# EAGLE library part LPC3240 (library kwoo)
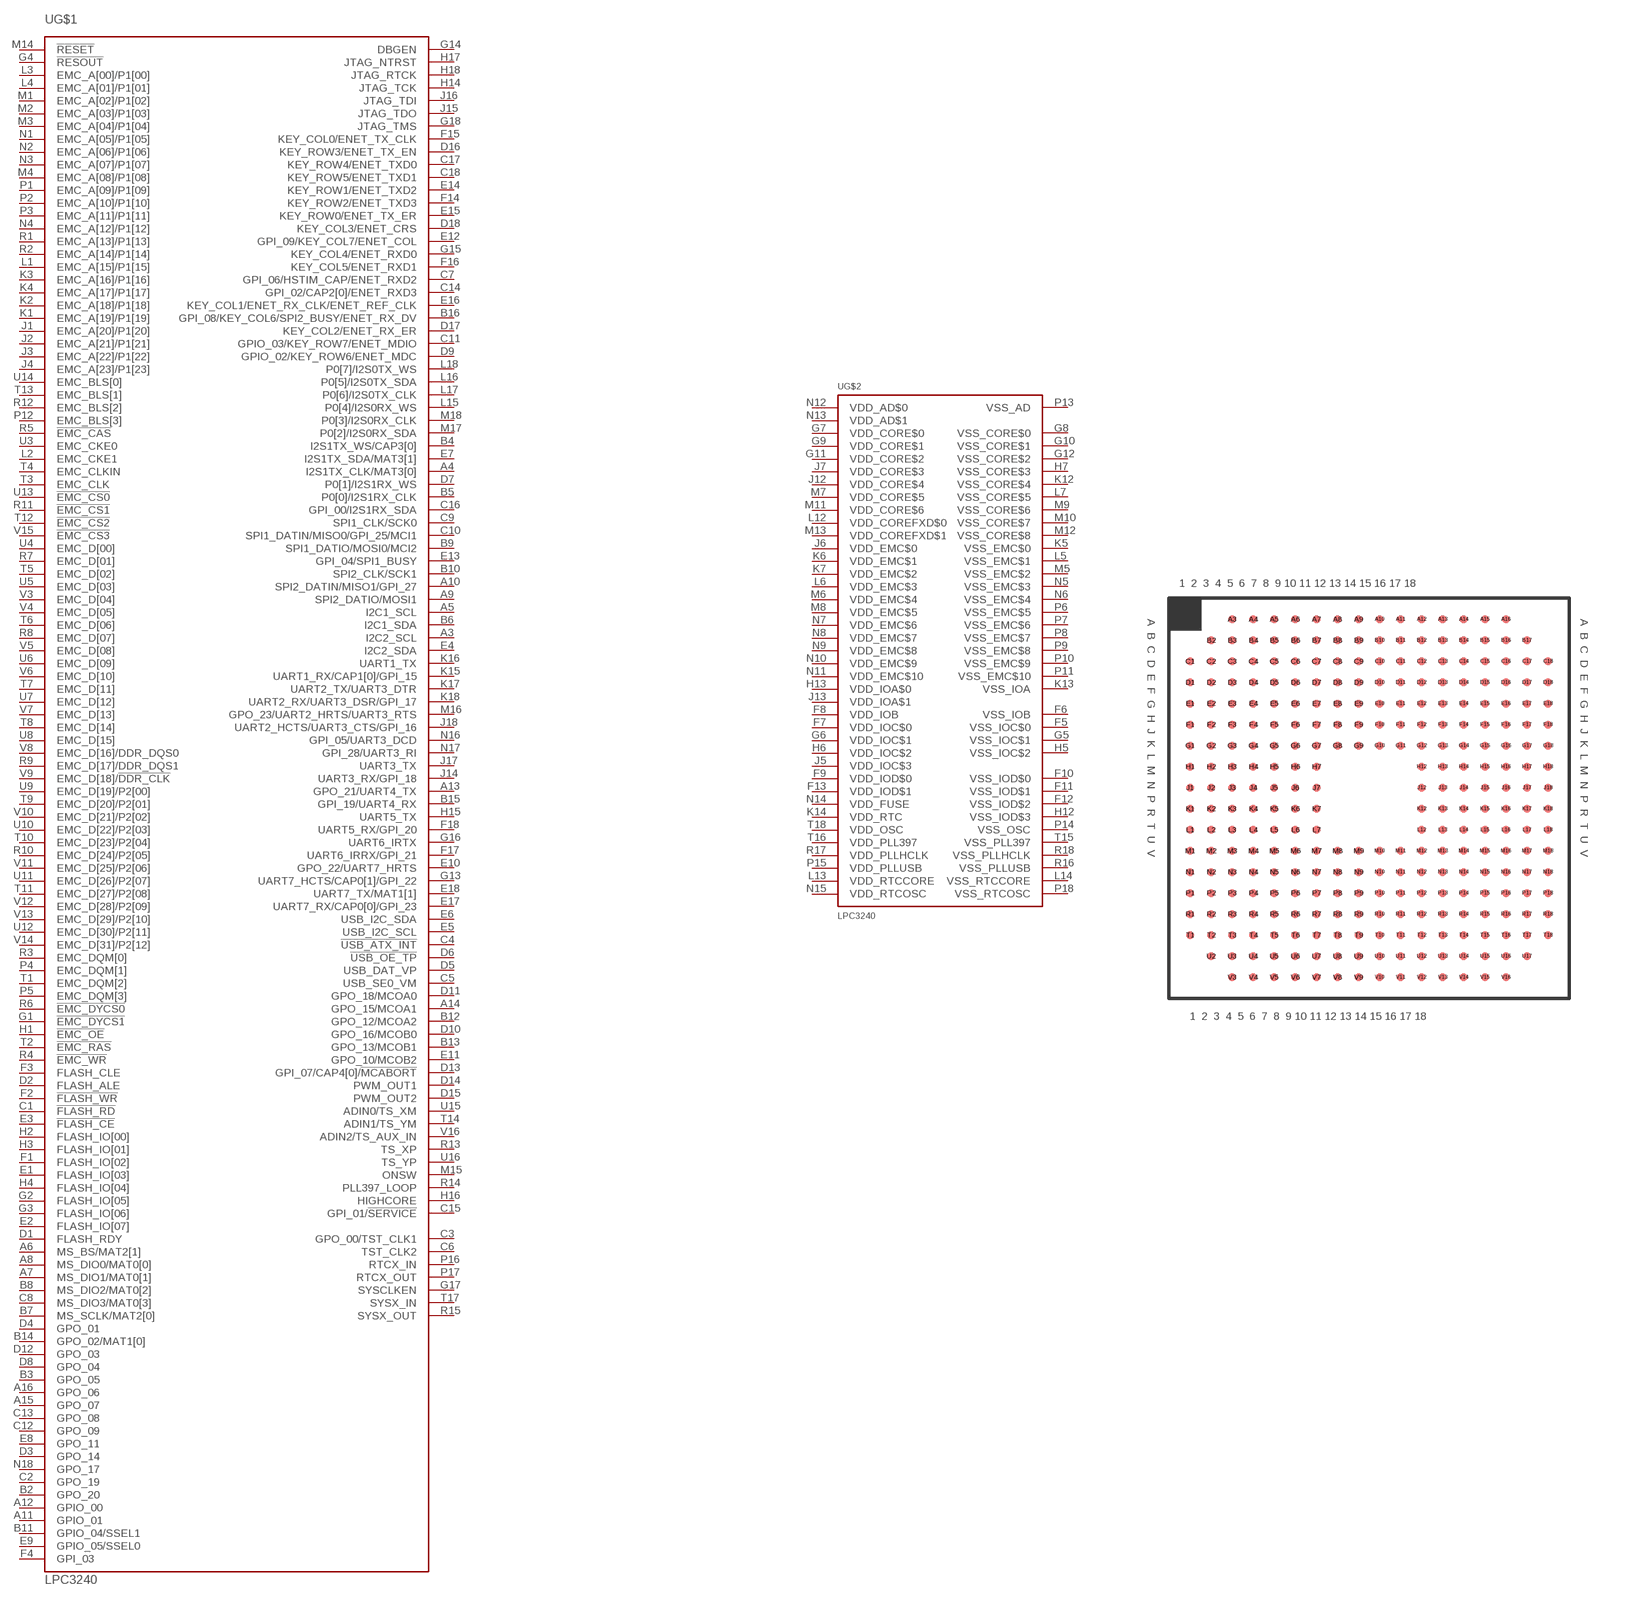
[diagram p11: symbol with the pads of SOT1048-1; footprint SOT1048-1]

Designator prefix -; gates G$1=LPC3240 G$2=LPC32X0_PWR

## LPC3240  [SOT1048-1]
A3  G$1:I2C2_SCL  nc
A4  G$1:I2S1TX_CLK/MAT3[0]  nc
A5  G$1:I2C1_SCL  nc
A6  G$1:MS_BS/MAT2[1]  nc
A7  G$1:MS_DIO1/MAT0[1]  nc
A8  G$1:MS_DIO0/MAT0[0]  nc
A9  G$1:SPI2_DATIO/MOSI1  nc
A10  G$1:SPI2_DATIN/MISO1/GPI_27  nc
A11  G$1:GPIO_01  nc
A12  G$1:GPIO_00  nc
A13  G$1:GPO_21/UART4_TX  nc
A14  G$1:GPO_15/MCOA1  nc
A15  G$1:GPO_07  nc
A16  G$1:GPO_06  nc
B2  G$1:GPO_20  nc
B3  G$1:GPO_05  nc
B4  G$1:I2S1TX_WS/CAP3[0]  nc
B5  G$1:P0[0]/I2S1RX_CLK  nc
B6  G$1:I2C1_SDA  nc
B7  G$1:MS_SCLK/MAT2[0]  nc
B8  G$1:MS_DIO2/MAT0[2]  nc
B9  G$1:SPI1_DATIO/MOSI0/MCI2  nc
B10  G$1:SPI2_CLK/SCK1  nc
B11  G$1:GPIO_04/SSEL1  nc
B12  G$1:GPO_12/MCOA2  nc
B13  G$1:GPO_13/MCOB1  nc
B14  G$1:GPO_02/MAT1[0]  nc
B15  G$1:GPI_19/UART4_RX  nc
B16  G$1:GPI_08/KEY_COL6/SPI2_BUSY/ENET_RX_DV  nc
C1  G$1:!FLASH_RD  nc
C2  G$1:GPO_19  nc
C3  G$1:GPO_00/TST_CLK1  nc
C4  G$1:!USB_ATX_INT  nc
C5  G$1:USB_SE0_VM  nc
C6  G$1:TST_CLK2  nc
C7  G$1:GPI_06/HSTIM_CAP/ENET_RXD2  nc
C8  G$1:MS_DIO3/MAT0[3]  nc
C9  G$1:SPI1_CLK/SCK0  nc
C10  G$1:SPI1_DATIN/MISO0/GPI_25/MCI1  nc
C11  G$1:GPIO_03/KEY_ROW7/ENET_MDIO  nc
C12  G$1:GPO_09  nc
C13  G$1:GPO_08  nc
C14  G$1:GPI_02/CAP2[0]/ENET_RXD3  nc
C15  G$1:GPI_01/!SERVICE  nc
C16  G$1:GPI_00/I2S1RX_SDA  nc
C17  G$1:KEY_ROW4/ENET_TXD0  nc
C18  G$1:KEY_ROW5/ENET_TXD1  nc
D1  G$1:FLASH_RDY  nc
D2  G$1:FLASH_ALE  nc
D3  G$1:GPO_14  nc
D4  G$1:GPO_01  nc
D5  G$1:USB_DAT_VP  nc
D6  G$1:!USB_OE_TP  nc
D7  G$1:P0[1]/I2S1RX_WS  nc
D8  G$1:GPO_04  nc
D9  G$1:GPIO_02/KEY_ROW6/ENET_MDC  nc
D10  G$1:GPO_16/MCOB0  nc
D11  G$1:GPO_18/MCOA0  nc
D12  G$1:GPO_03  nc
D13  G$1:GPI_07/CAP4[0]/!MCABORT  nc
D14  G$1:PWM_OUT1  nc
D15  G$1:PWM_OUT2  nc
D16  G$1:KEY_ROW3/ENET_TX_EN  nc
D17  G$1:KEY_COL2/ENET_RX_ER  nc
D18  G$1:KEY_COL3/ENET_CRS  nc
E1  G$1:FLASH_IO[03]  nc
E2  G$1:FLASH_IO[07]  nc
E3  G$1:!FLASH_CE  nc
E4  G$1:I2C2_SDA  nc
E5  G$1:USB_I2C_SCL  nc
E6  G$1:USB_I2C_SDA  nc
E7  G$1:I2S1TX_SDA/MAT3[1]  nc
E8  G$1:GPO_11  nc
E9  G$1:GPIO_05/SSEL0  nc
E10  G$1:GPO_22/UART7_HRTS  nc
E11  G$1:GPO_10/MCOB2  nc
E12  G$1:GPI_09/KEY_COL7/ENET_COL  nc
E13  G$1:GPI_04/SPI1_BUSY  nc
E14  G$1:KEY_ROW1/ENET_TXD2  nc
E15  G$1:KEY_ROW0/ENET_TX_ER  nc
E16  G$1:KEY_COL1/ENET_RX_CLK/ENET_REF_CLK  nc
E17  G$1:UART7_RX/CAP0[0]/GPI_23  nc
E18  G$1:UART7_TX/MAT1[1]  nc
F1  G$1:FLASH_IO[02]  nc
F2  G$1:!FLASH_WR  nc
F3  G$1:FLASH_CLE  nc
F4  G$1:GPI_03  nc
F5  G$2:VSS_IOC$0  pwr
F6  G$2:VSS_IOB  pwr
F7  G$2:VDD_IOC$0  pwr
F8  G$2:VDD_IOB  pwr
F9  G$2:VDD_IOD$0  pwr
F10  G$2:VSS_IOD$0  pwr
F11  G$2:VSS_IOD$1  pwr
F12  G$2:VSS_IOD$2  pwr
F13  G$2:VDD_IOD$1  pwr
F14  G$1:KEY_ROW2/ENET_TXD3  nc
F15  G$1:KEY_COL0/ENET_TX_CLK  nc
F16  G$1:KEY_COL5/ENET_RXD1  nc
F17  G$1:UART6_IRRX/GPI_21  nc
F18  G$1:UART5_RX/GPI_20  nc
G1  G$1:!EMC_DYCS1  nc
G2  G$1:FLASH_IO[05]  nc
G3  G$1:FLASH_IO[06]  nc
G4  G$1:!RESOUT  nc
G5  G$2:VSS_IOC$1  pwr
G6  G$2:VDD_IOC$1  pwr
G7  G$2:VDD_CORE$0  pwr
G8  G$2:VSS_CORE$0  pwr
G9  G$2:VDD_CORE$1  pwr
G10  G$2:VSS_CORE$1  pwr
G11  G$2:VDD_CORE$2  pwr
G12  G$2:VSS_CORE$2  pwr
G13  G$1:UART7_HCTS/CAP0[1]/GPI_22  nc
G14  G$1:DBGEN  nc
G15  G$1:KEY_COL4/ENET_RXD0  nc
G16  G$1:UART6_IRTX  nc
G17  G$1:SYSCLKEN  nc
G18  G$1:JTAG_TMS  nc
H1  G$1:!EMC_OE  nc
H2  G$1:FLASH_IO[00]  nc
H3  G$1:FLASH_IO[01]  nc
H4  G$1:FLASH_IO[04]  nc
H5  G$2:VSS_IOC$2  pwr
H6  G$2:VDD_IOC$2  pwr
H7  G$2:VSS_CORE$3  pwr
H12  G$2:VSS_IOD$3  pwr
H13  G$2:VDD_IOA$0  pwr
H14  G$1:JTAG_TCK  nc
H15  G$1:UART5_TX  nc
H16  G$1:HIGHCORE  nc
H17  G$1:JTAG_NTRST  nc
H18  G$1:JTAG_RTCK  nc
J1  G$1:EMC_A[20]/P1[20]  nc
J2  G$1:EMC_A[21]/P1[21]  nc
J3  G$1:EMC_A[22]/P1[22]  nc
J4  G$1:EMC_A[23]/P1[23]  nc
J5  G$2:VDD_IOC$3  pwr
J6  G$2:VDD_EMC$0  pwr
J7  G$2:VDD_CORE$3  pwr
J12  G$2:VDD_CORE$4  pwr
J13  G$2:VDD_IOA$1  pwr
J14  G$1:UART3_RX/GPI_18  nc
J15  G$1:JTAG_TDO  nc
J16  G$1:JTAG_TDI  nc
J17  G$1:UART3_TX  nc
J18  G$1:UART2_HCTS/UART3_CTS/GPI_16  nc
K1  G$1:EMC_A[19]/P1[19]  nc
K2  G$1:EMC_A[18]/P1[18]  nc
K3  G$1:EMC_A[16]/P1[16]  nc
K4  G$1:EMC_A[17]/P1[17]  nc
K5  G$2:VSS_EMC$0  pwr
K6  G$2:VDD_EMC$1  pwr
K7  G$2:VDD_EMC$2  pwr
K12  G$2:VSS_CORE$4  pwr
K13  G$2:VSS_IOA  pwr
K14  G$2:VDD_RTC  pwr
K15  G$1:UART1_RX/CAP1[0]/GPI_15  nc
K16  G$1:UART1_TX  nc
K17  G$1:UART2_TX/UART3_DTR  nc
K18  G$1:UART2_RX/UART3_DSR/GPI_17  nc
L1  G$1:EMC_A[15]/P1[15]  nc
L2  G$1:EMC_CKE1  nc
L3  G$1:EMC_A[00]/P1[00]  nc
L4  G$1:EMC_A[01]/P1[01]  nc
L5  G$2:VSS_EMC$1  pwr
L6  G$2:VDD_EMC$3  pwr
L7  G$2:VSS_CORE$5  pwr
L12  G$2:VDD_COREFXD$0  pwr
L13  G$2:VDD_RTCCORE  pwr
L14  G$2:VSS_RTCCORE  pwr
L15  G$1:P0[4]/I2S0RX_WS  nc
L16  G$1:P0[5]/I2S0TX_SDA  nc
L17  G$1:P0[6]/I2S0TX_CLK  nc
L18  G$1:P0[7]/I2S0TX_WS  nc
M1  G$1:EMC_A[02]/P1[02]  nc
M2  G$1:EMC_A[03]/P1[03]  nc
M3  G$1:EMC_A[04]/P1[04]  nc
M4  G$1:EMC_A[08]/P1[08]  nc
M5  G$2:VSS_EMC$2  pwr
M6  G$2:VDD_EMC$4  pwr
M7  G$2:VDD_CORE$5  pwr
M8  G$2:VDD_EMC$5  pwr
M9  G$2:VSS_CORE$6  pwr
M10  G$2:VSS_CORE$7  pwr
M11  G$2:VDD_CORE$6  pwr
M12  G$2:VSS_CORE$8  pwr
M13  G$2:VDD_COREFXD$1  pwr
M14  G$1:!RESET  nc
M15  G$1:ONSW  nc
M16  G$1:GPO_23/UART2_HRTS/UART3_RTS  nc
M17  G$1:P0[2]/I2S0RX_SDA  nc
M18  G$1:P0[3]/I2S0RX_CLK  nc
N1  G$1:EMC_A[05]/P1[05]  nc
N2  G$1:EMC_A[06]/P1[06]  nc
N3  G$1:EMC_A[07]/P1[07]  nc
N4  G$1:EMC_A[12]/P1[12]  nc
N5  G$2:VSS_EMC$3  pwr
N6  G$2:VSS_EMC$4  pwr
N7  G$2:VDD_EMC$6  pwr
N8  G$2:VDD_EMC$7  pwr
N9  G$2:VDD_EMC$8  pwr
N10  G$2:VDD_EMC$9  pwr
N11  G$2:VDD_EMC$10  pwr
N12  G$2:VDD_AD$0  pwr
N13  G$2:VDD_AD$1  pwr
N14  G$2:VDD_FUSE  pwr
N15  G$2:VDD_RTCOSC  pwr
N16  G$1:GPI_05/UART3_DCD  nc
N17  G$1:GPI_28/UART3_RI  nc
N18  G$1:GPO_17  nc
P1  G$1:EMC_A[09]/P1[09]  nc
P2  G$1:EMC_A[10]/P1[10]  nc
P3  G$1:EMC_A[11]/P1[11]  nc
P4  G$1:EMC_DQM[1]  nc
P5  G$1:EMC_DQM[3]  nc
P6  G$2:VSS_EMC$5  pwr
P7  G$2:VSS_EMC$6  pwr
P8  G$2:VSS_EMC$7  pwr
P9  G$2:VSS_EMC$8  pwr
P10  G$2:VSS_EMC$9  pwr
P11  G$2:VSS_EMC$10  pwr
P12  G$1:EMC_BLS[3]  nc
P13  G$2:VSS_AD  pwr
P14  G$2:VSS_OSC  pwr
P15  G$2:VDD_PLLUSB  pwr
P16  G$1:RTCX_IN  nc
P17  G$1:RTCX_OUT  nc
P18  G$2:VSS_RTCOSC  pwr
R1  G$1:EMC_A[13]/P1[13]  nc
R2  G$1:EMC_A[14]/P1[14]  nc
R3  G$1:EMC_DQM[0]  nc
R4  G$1:!EMC_WR  nc
R5  G$1:!EMC_CAS  nc
R6  G$1:!EMC_DYCS0  nc
R7  G$1:EMC_D[01]  nc
R8  G$1:EMC_D[07]  nc
R9  G$1:EMC_D[17]/DDR_DQS1  nc
R10  G$1:EMC_D[24]/P2[05]  nc
R11  G$1:!EMC_CS1  nc
R12  G$1:EMC_BLS[2]  nc
R13  G$1:TS_XP  nc
R14  G$1:PLL397_LOOP  nc
R15  G$1:SYSX_OUT  nc
R16  G$2:VSS_PLLUSB  pwr
R17  G$2:VDD_PLLHCLK  pwr
R18  G$2:VSS_PLLHCLK  pwr
T1  G$1:EMC_DQM[2]  nc
T2  G$1:!EMC_RAS  nc
T3  G$1:EMC_CLK  nc
T4  G$1:EMC_CLKIN  nc
T5  G$1:EMC_D[02]  nc
T6  G$1:EMC_D[06]  nc
T7  G$1:EMC_D[11]  nc
T8  G$1:EMC_D[14]  nc
T9  G$1:EMC_D[20]/P2[01]  nc
T10  G$1:EMC_D[23]/P2[04]  nc
T11  G$1:EMC_D[27]/P2[08]  nc
T12  G$1:!EMC_CS2  nc
T13  G$1:EMC_BLS[1]  nc
T14  G$1:ADIN1/TS_YM  nc
T15  G$2:VSS_PLL397  pwr
T16  G$2:VDD_PLL397  pwr
T17  G$1:SYSX_IN  nc
T18  G$2:VDD_OSC  pwr
U3  G$1:EMC_CKE0  nc
U4  G$1:EMC_D[00]  nc
U5  G$1:EMC_D[03]  nc
U6  G$1:EMC_D[09]  nc
U7  G$1:EMC_D[12]  nc
U8  G$1:EMC_D[15]  nc
U9  G$1:EMC_D[19]/P2[00]  nc
U10  G$1:EMC_D[22]/P2[03]  nc
U11  G$1:EMC_D[26]/P2[07]  nc
U12  G$1:EMC_D[30]/P2[11]  nc
U13  G$1:!EMC_CS0  nc
U14  G$1:EMC_BLS[0]  nc
U15  G$1:ADIN0/TS_XM  nc
U16  G$1:TS_YP  nc
V3  G$1:EMC_D[04]  nc
V4  G$1:EMC_D[05]  nc
V5  G$1:EMC_D[08]  nc
V6  G$1:EMC_D[10]  nc
V7  G$1:EMC_D[13]  nc
V8  G$1:EMC_D[16]/DDR_DQS0  nc
V9  G$1:EMC_D[18]/!DDR_CLK  nc
V10  G$1:EMC_D[21]/P2[02]  nc
V11  G$1:EMC_D[25]/P2[06]  nc
V12  G$1:EMC_D[28]/P2[09]  nc
V13  G$1:EMC_D[29]/P2[10]  nc
V14  G$1:EMC_D[31]/P2[12]  nc
V15  G$1:!EMC_CS3  nc
V16  G$1:ADIN2/TS_AUX_IN  nc

## Footprint SOT1048-1 (pad centres in mm)
smd 0.3 x 0.3: A3 -5.184,6.779; A4 -4.387,6.779; A5 -3.589,6.779; A6 -2.792,6.779; A7 -1.994,6.779; A8 -1.196,6.779; A9 -0.399,6.779; A10 0.399,6.779; A11 1.196,6.779; A12 1.994,6.779; A13 2.791,6.779; A14 3.589,6.779; A15 4.386,6.779; A16 5.184,6.779; B2 -5.982,5.982; B3 -5.184,5.982; B4 -4.387,5.982; B5 -3.589,5.982; B6 -2.792,5.982; B7 -1.994,5.982; B8 -1.196,5.982; B9 -0.399,5.982; B10 0.399,5.982; B11 1.196,5.982; B12 1.994,5.982; B13 2.791,5.982; B14 3.589,5.982; B15 4.386,5.982; B16 5.184,5.982; B17 5.982,5.982; C1 -6.779,5.184; C2 -5.982,5.184; C3 -5.184,5.184; C4 -4.387,5.184; C5 -3.589,5.184; C6 -2.792,5.184; C7 -1.994,5.184; C8 -1.196,5.184; C9 -0.399,5.184; C10 0.399,5.184; C11 1.196,5.184; C12 1.994,5.184; C13 2.791,5.184; C14 3.589,5.184; C15 4.386,5.184; C16 5.184,5.184; C17 5.982,5.184; C18 6.779,5.184; D1 -6.779,4.387; D2 -5.982,4.387; D3 -5.184,4.387; D4 -4.387,4.387; D5 -3.589,4.387; D6 -2.792,4.387; D7 -1.994,4.387; D8 -1.196,4.387; D9 -0.399,4.387; D10 0.399,4.387; D11 1.196,4.387; D12 1.994,4.387; D13 2.791,4.387; D14 3.589,4.387; D15 4.386,4.387; D16 5.184,4.387; D17 5.982,4.387; D18 6.779,4.387; E1 -6.779,3.589; E2 -5.982,3.589; E3 -5.184,3.589; E4 -4.387,3.589; E5 -3.589,3.589; E6 -2.792,3.589; E7 -1.994,3.589; E8 -1.196,3.589; E9 -0.399,3.589; E10 0.399,3.589; E11 1.196,3.589; E12 1.994,3.589; E13 2.791,3.589; E14 3.589,3.589; E15 4.386,3.589; E16 5.184,3.589; E17 5.982,3.589; E18 6.779,3.589; F1 -6.779,2.792; F2 -5.982,2.792; F3 -5.184,2.792; F4 -4.387,2.792; F5 -3.589,2.792; F6 -2.792,2.792; F7 -1.994,2.792; F8 -1.196,2.792; F9 -0.399,2.792; F10 0.399,2.792; F11 1.196,2.792; F12 1.994,2.792; F13 2.791,2.792; F14 3.589,2.792; F15 4.386,2.792; F16 5.184,2.792; F17 5.982,2.792; F18 6.779,2.792; G1 -6.779,1.994; G2 -5.982,1.994; G3 -5.184,1.994; G4 -4.387,1.994; G5 -3.589,1.994; G6 -2.792,1.994; G7 -1.994,1.994; G8 -1.196,1.994; G9 -0.399,1.994; G10 0.399,1.994; G11 1.196,1.994; G12 1.994,1.994; G13 2.791,1.994; G14 3.589,1.994; G15 4.386,1.994; G16 5.184,1.994; G17 5.982,1.994; G18 6.779,1.994; H1 -6.779,1.196; H2 -5.982,1.196; H3 -5.184,1.196; H4 -4.387,1.196; H5 -3.589,1.196; H6 -2.792,1.196; H7 -1.994,1.196; H12 1.994,1.196; H13 2.791,1.196; H14 3.589,1.196; H15 4.386,1.196; H16 5.184,1.196; H17 5.982,1.196; H18 6.779,1.196; J1 -6.779,0.399; J2 -5.982,0.399; J3 -5.184,0.399; J4 -4.387,0.399; J5 -3.589,0.399; J6 -2.792,0.399; J7 -1.994,0.399; J12 1.994,0.4; J13 2.791,0.399; J14 3.589,0.399; J15 4.386,0.399; J16 5.184,0.399; J17 5.982,0.399; J18 6.779,0.399; K1 -6.779,-0.399; K2 -5.982,-0.399; K3 -5.184,-0.399; K4 -4.387,-0.399; K5 -3.589,-0.399; K6 -2.792,-0.399; K7 -1.994,-0.399; K12 1.994,-0.399; K13 2.791,-0.399; K14 3.589,-0.399; K15 4.386,-0.399; K16 5.184,-0.399; K17 5.982,-0.399; K18 6.779,-0.399; L1 -6.779,-1.196; L2 -5.982,-1.196; L3 -5.184,-1.196; L4 -4.387,-1.196; L5 -3.589,-1.196; L6 -2.792,-1.196; L7 -1.994,-1.196; L12 1.994,-1.196; L13 2.791,-1.196; L14 3.589,-1.196; L15 4.386,-1.196; L16 5.184,-1.196; L17 5.982,-1.196; L18 6.779,-1.196; M1 -6.779,-1.994; M2 -5.982,-1.994; M3 -5.184,-1.994; M4 -4.387,-1.994; M5 -3.589,-1.994; M6 -2.792,-1.994; M7 -1.994,-1.994; M8 -1.196,-1.994; M9 -0.399,-1.994; M10 0.399,-1.994; M11 1.196,-1.994; M12 1.994,-1.994; M13 2.791,-1.994; M14 3.589,-1.994; M15 4.386,-1.994; M16 5.184,-1.994; M17 5.982,-1.994; M18 6.779,-1.994; N1 -6.779,-2.791; N2 -5.982,-2.791; N3 -5.184,-2.791; N4 -4.387,-2.791; N5 -3.589,-2.791; N6 -2.792,-2.791; N7 -1.994,-2.791; N8 -1.196,-2.791; N9 -0.399,-2.791; N10 0.399,-2.791; N11 1.196,-2.791; N12 1.994,-2.791; N13 2.791,-2.791; N14 3.589,-2.791; N15 4.386,-2.791; N16 5.184,-2.791; N17 5.982,-2.791; N18 6.779,-2.791; P1 -6.779,-3.589; P2 -5.982,-3.589; P3 -5.184,-3.589; P4 -4.387,-3.589; P5 -3.589,-3.589; P6 -2.792,-3.589; P7 -1.994,-3.589; P8 -1.196,-3.589; P9 -0.399,-3.589; P10 0.399,-3.589; P11 1.196,-3.589; P12 1.994,-3.589; P13 2.791,-3.589; P14 3.589,-3.589; P15 4.386,-3.589; P16 5.184,-3.589; P17 5.982,-3.589; P18 6.779,-3.589; R1 -6.779,-4.386; R2 -5.982,-4.386; R3 -5.184,-4.386; R4 -4.387,-4.386; R5 -3.589,-4.386; R6 -2.792,-4.386; R7 -1.994,-4.386; R8 -1.196,-4.386; R9 -0.399,-4.386; R10 0.399,-4.386; R11 1.196,-4.386; R12 1.994,-4.386; R13 2.791,-4.386; R14 3.589,-4.386; R15 4.386,-4.386; R16 5.184,-4.386; R17 5.982,-4.386; R18 6.779,-4.386; T1 -6.779,-5.184; T2 -5.982,-5.184; T3 -5.184,-5.184; T4 -4.387,-5.184; T5 -3.589,-5.184; T6 -2.792,-5.184; T7 -1.994,-5.184; T8 -1.196,-5.184; T9 -0.399,-5.184; T10 0.399,-5.184; T11 1.196,-5.184; T12 1.994,-5.184; T13 2.791,-5.184; T14 3.589,-5.184; T15 4.386,-5.184; T16 5.184,-5.184; T17 5.982,-5.184; T18 6.779,-5.184; U2 -5.982,-5.982; U3 -5.184,-5.982; U4 -4.387,-5.982; U5 -3.589,-5.982; U6 -2.792,-5.982; U7 -1.994,-5.982; U8 -1.196,-5.982; U9 -0.399,-5.982; U10 0.399,-5.982; U11 1.196,-5.982; U12 1.994,-5.982; U13 2.791,-5.982; U14 3.589,-5.982; U15 4.386,-5.982; U16 5.184,-5.982; U17 5.982,-5.982; V3 -5.184,-6.779; V4 -4.387,-6.779; V5 -3.589,-6.779; V6 -2.792,-6.779; V7 -1.994,-6.779; V8 -1.196,-6.779; V9 -0.399,-6.779; V10 0.399,-6.779; V11 1.196,-6.779; V12 1.994,-6.779; V13 2.791,-6.779; V14 3.589,-6.779; V15 4.386,-6.779; V16 5.184,-6.779